# Altium footprint library Smoothie_new_12_02.PcbLib: 39 footprints (part 2 of 3)
Each footprint in its own frame and in the unit in brackets; x right, y up, seen from the top. Pads: shape width x height; smd on the part's side, far side on the other; paste and mask are expansions set on the pad; w line width, h text height; cw(c..) or ccw(c..) is an arc to the next point about the centre after c.
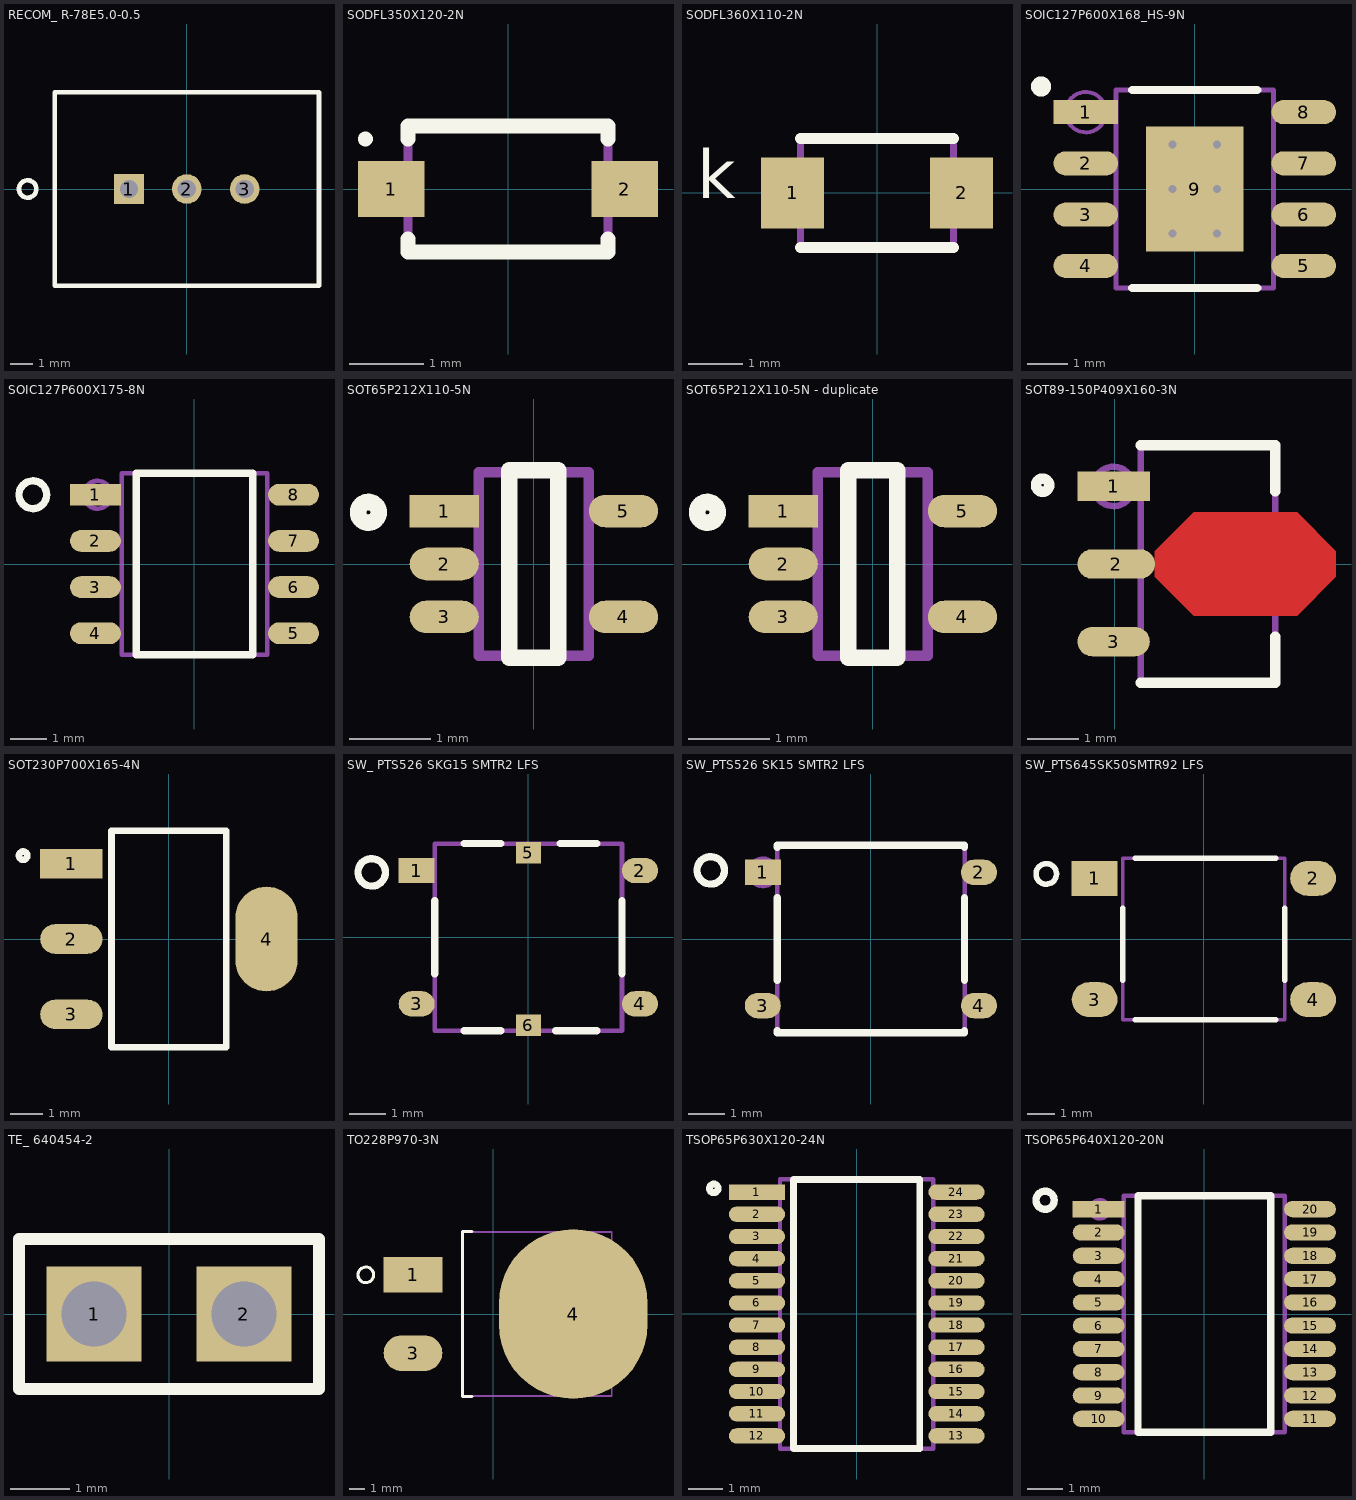
[diagram p1: the footprints below, top view; thin cyan lines are the x and y axes]

## RECOM_ R-78E5.0-0.5 [mm]
height 10.4
pads (3):
  rect 1.3x1.3 hole 0.8: 1(-2.54,0)
  round 1.3 hole 0.8: 2(0,0) 3(2.54,0)
Top Overlay:
  circle w0.203: c-6.985,0 r0.381
  lines w0.203: -5.8,-4.25 -5.8,4.25 5.8,4.25 5.8,-4.25 -5.8,-4.25
Mechanical 1:
  text "'.Designator'" at 0,0 h1.52
Mechanical 15:
  circle w0.127: c-2.54,0 r0.381
  lines w0.127: -5.8,-4.25 5.8,-4.25 5.8,4.25 -5.8,4.25 -5.8,-4.25
3D body: height 10.4, standoff 0, extent -5.8,-4.25 5.8,4.25

## SODFL350X120-2N [mm] "SODFL, 2-Leads, Body 1.60x3.50mm, IPC Medium Density"
height 1.2
pads (2):
  rect 0.9x0.75 smd: 1(-1.575,0) 2(1.575,0)
Top Overlay:
  circle w0.1: c-1.925,0.675 r0.05
  lines w0.203: -1.35,-0.677 -1.35,-0.85 1.35,-0.85 1.35,-0.677 ; -1.35,0.677 -1.35,0.85 1.35,0.85 1.35,0.677
Mechanical 1:
  text "'.Designator'" at 0,0 h1.52
Mechanical 15:
  lines w0.127: -1.35,-0.85 -1.35,0.85 1.35,0.85 1.35,-0.85 -1.35,-0.85
3D body "SODFL350X120-2N.step": height 1.2, standoff 0, extent -1.75,-0.85 1.75,0.85

## SODFL360X110-2N [mm] "SODFL, 2-Leads, Body 1.80x3.60mm, IPC Medium Density"
height 1.1
pads (2):
  rect 1.15x1.3 smd: 1(-1.55,0) 2(1.55,0)
Top Overlay:
  lines w0.203: -1.4,-1 1.4,-1 ; -1.4,1 1.4,1
  text "k" at -3.302,-0.381 h1.52
Mechanical 1:
  text "'.Designator'" at 0,0 h1.52
Mechanical 15:
  lines w0.127: -1.4,-1 1.4,-1 1.4,1 -1.4,1 -1.4,-1
  text "k" at -3.302,-0.381 h1.52
3D body "SODFL360X110-2N.step": height 1.1, standoff 0, extent -1.8,-1 1.8,1

## SOIC127P600X168_HS-9N [mm] "SOIC, 8-Leads, Body 4.89x3.90mm, Pitch 1.27mm, Thermal Pad 3.10x2.41mm, IPC Medium Density"
height 1.68
pads (9):
  rect 1.6x0.6 smd: 1(-2.7,1.905)
  oval 1.6x0.6 smd: 2(-2.7,0.635) 3(-2.7,-0.635) 4(-2.7,-1.905) 5(2.7,-1.905) 6(2.7,-0.635) 7(2.7,0.635) 8(2.7,1.905)
  rect 2.41x3.1 smd: 9(0,0)
via 0.55,-1.1 diameter 0.5 hole 0.2
via -0.55,-1.1 diameter 0.5 hole 0.2
via 0.55,0 diameter 0.5 hole 0.2
via -0.55,0 diameter 0.5 hole 0.2
via 0.55,1.1 diameter 0.5 hole 0.2
via -0.55,1.1 diameter 0.5 hole 0.2
Top Overlay:
  circle w0.25: c-3.81,2.54 r0.125
  lines w0.203: -1.55,-2.45 1.55,-2.45 ; -1.55,2.45 1.55,2.45
Mechanical 15:
  circle w0.1: c-2.7,1.905 r0.5
  lines w0.127: -1.95,-2.45 1.95,-2.45 1.95,2.45 -1.95,2.45 -1.95,-2.45
3D body "SOIC127P600X168_HS-9N.step": height 1.68, standoff 0, extent -3.01,-2.45 3.01,2.45

## SOIC127P600X175-8N [mm] "SOIC, 8-Leads, Body 4.90x3.90mm, Pitch 1.27mm, IPC Medium Density"
height 1.75
pads (8):
  rect 1.4x0.6 smd: 1(-2.725,1.905)
  oval 1.4x0.6 smd: 2(-2.725,0.635) 3(-2.725,-0.635) 4(-2.725,-1.905) 5(2.725,-1.905) 6(2.725,-0.635) 7(2.725,0.635) 8(2.725,1.905)
Top Overlay:
  circle w0.203: c-4.445,1.905 r0.381
  lines w0.203: -1.6,-2.5 -1.6,2.5 1.6,2.5 1.6,-2.5 -1.6,-2.5
Mechanical 1:
  text "'.Designator'" at 0,0 h1.52
Mechanical 15:
  circle w0.127: c-2.667,1.905 r0.381
  lines w0.127: -2,-2.5 -2,2.5 2,2.5 2,-2.5 -2,-2.5
3D body "SOIC127P600X175-8N.step": height 1.75, standoff 0, extent -3,-2.5 3,2.5

## SOT65P212X110-5N [mm] "SOT23, 5-Leads, Body 2.05x2.13mm, Pitch 0.65mm, IPC Medium Density"
height 1.1
pads (5):
  rect 0.85x0.4 smd: 1(-1.1,0.65)
  oval 0.85x0.4 smd: 2(-1.1,0) 3(-1.1,-0.65) 4(1.1,-0.65) 5(1.1,0.65)
Top Overlay:
  circle w0.203: c-2.032,0.635 r0.127
  lines w0.203: -0.3,-1.15 -0.3,1.15 0.3,1.15 0.3,-1.15 -0.3,-1.15
Mechanical 1:
  text "'.Designator'" at 0,0 h1.52
Mechanical 15:
  lines w0.127: -0.675,-1.125 0.675,-1.125 0.675,1.125 -0.675,1.125 -0.675,-1.125
3D body "SOT65P212X110-5N.step": height 1.1, standoff 0, extent -1.125,-1.125 1.125,1.125

## SOT65P212X110-5N - duplicate [mm] "SOT23, 5-Leads, Body 2.05x2.13mm, Pitch 0.65mm, IPC Medium Density"
height 1.1
pads (5):
  rect 0.85x0.4 smd: 1(-1.1,0.65)
  oval 0.85x0.4 smd: 2(-1.1,0) 3(-1.1,-0.65) 4(1.1,-0.65) 5(1.1,0.65)
Top Overlay:
  circle w0.203: c-2.032,0.635 r0.127
  lines w0.203: -0.3,-1.15 0.3,-1.15 0.3,1.15 -0.3,1.15 -0.3,-1.15
Mechanical 1:
  text "'.Designator'" at 0,0 h1.52
Mechanical 15:
  lines w0.127: -0.675,-1.125 -0.675,1.125 0.675,1.125 0.675,-1.125 -0.675,-1.125
3D body "SOT65P212X110-5N.step": height 1.1, standoff 0, extent -1.125,-1.125 1.125,1.125

## SOT89-150P409X160-3N [mm] "SOT89, 3-Leads, Body 4.50x2.45mm, Pitch 1.50mm, Lead Span 4.1mm, IPC Medium Density"
height 1.6
pads (3):
  rect 1.4x0.57 smd: 1(-0.025,1.5)
  oval 1.5x0.57 smd: 2(0.025,0)
  oval 1.4x0.57 smd: 3(-0.025,-1.5)
Top Layer:
  region: 0.775,0.25 1.525,1 3.525,1 4.275,0.25 4.275,-0.25 3.525,-1 1.525,-1 0.775,-0.25
Top Overlay:
  circle w0.203: c-1.397,1.524 r0.127
  lines w0.203: 0.498,-2.3 3.098,-2.3 3.098,-1.402 ; 0.498,2.3 3.098,2.3 3.098,1.402
Mechanical 1:
  text "'.Designator'" at 0,0 h1.52
Mechanical 15:
  circle w0.127: c-0.025,1.5 r0.381
  lines w0.127: 0.498,-2.3 3.098,-2.3 3.098,2.3 0.498,2.3 0.498,-2.3
3D body "SOT89-150P409X160-3N.step": height 1.6, standoff 0, extent -0.425,-2.297 3.875,2.297

## SOT230P700X165-4N [mm] "SOT223, 4-Leads, Body 6.50x7.00mm (avg), Pitch 2.30mm, IPC Medium Density"
height 1.65
pads (4):
  rect 1.9x0.9 smd: 1(-2.975,2.3)
  oval 1.9x0.9 smd: 2(-2.975,0) 3(-2.975,-2.3)
  oval 1.9x3.2 smd: 4(2.975,0)
Top Overlay:
  circle w0.203: c-4.445,2.54 r0.127
  lines w0.203: -1.75,-3.3 1.75,-3.3 1.75,3.3 -1.75,3.3 -1.75,-3.3
Mechanical 15:
  lines w0.127: -1.775,-3.275 1.775,-3.275 1.775,3.275 -1.775,3.275 -1.775,-3.275
3D body "SOT230P700X165-4N.step": height 1.65, standoff 0, extent -3.5,-3.275 3.5,3.275

## SW_ PTS526 SKG15 SMTR2 LFS [mm]
height 1.25
pads (6):
  rect 1x0.7 smd: 1(-3.1,1.85)
  oval 1x0.7 smd: 2(3.1,1.85) 3(-3.1,-1.85) 4(3.1,-1.85)
  rect 0.7x0.6 smd: 5(0,2.35) 6(0,-2.45)
Top Overlay:
  circle w0.203: c-4.35,1.8 r0.381
  lines w0.203: -2.6,-1.016 -2.6,1.016 ; -1.778,-2.6 -0.762,-2.6 ; -1.778,2.6 -0.762,2.6 ; 0.762,-2.6 1.905,-2.6 ; 0.889,2.6 1.905,2.6 ; 2.6,-1.016 2.6,1.016
Mechanical 1:
  text "'.Designator'" at 0,0 h1.52
Mechanical 15:
  circle w0.127: c-3.1,1.85 r0.254
  lines w0.127: -2.6,-2.6 2.6,-2.6 2.6,2.6 -2.6,2.6 -2.6,-2.6
3D body: height 1.25, standoff 0, extent -2.6,-2.6 2.6,2.6

## SW_PTS526 SK15 SMTR2 LFS [mm]
height 1.15
pads (4):
  rect 1x0.7 smd: 1(-3,1.85)
  oval 1x0.7 smd: 2(3,1.85) 3(-3,-1.85) 4(3,-1.85)
Top Overlay:
  circle w0.203: c-4.445,1.905 r0.381
  lines w0.203: -2.6,-2.54 -2.6,-2.6 2.6,-2.6 2.6,-2.54 ; -2.6,-1.143 -2.6,1.143 ; -2.6,2.54 -2.6,2.6 2.6,2.6 2.6,2.54 ; 2.6,-1.143 2.6,1.143
Mechanical 1:
  text "'.Designator'" at 0,0 h1.52
Mechanical 15:
  circle w0.127: c-3,1.85 r0.381
  lines w0.127: -2.6,-2.6 -2.6,2.6 2.6,2.6 2.6,-2.6 -2.6,-2.6
3D body: height 1.15, standoff 0, extent -2.6,-2.6 2.6,2.6

## SW_PTS645SK50SMTR92 LFS [mm]
height 4.4
pads (4):
  rect 1.7x1.3 smd: 1(-4.05,2.25)
  oval 1.7x1.3 smd: 2(4.05,2.25) 3(-4.05,-2.25) 4(4.05,-2.25)
Top Overlay:
  circle w0.203: c-5.842,2.413 r0.381
  lines w0.203: -3,-1.524 -3,1.143 ; -2.54,-3 2.667,-3 ; -2.54,3 2.667,3 ; 3,-1.524 3,1.143
Mechanical 1:
  text "'.Designator'" at 0,0 h1.52
Mechanical 15:
  circle w0.127: c-4.05,2.25 r0.381
  lines w0.127: -3,-3 3,-3 3,3 -3,3 -3,-3
3D body: height 44, standoff 0, extent -3,-3 3,3

## TE_ 640454-2 [mm]
height 7.75
pads (2):
  rect 1.61x1.61 hole 1.1: 1(-1.27,0) 2(1.27,0)
Top Overlay:
  lines w0.203: -2.54,-1.27 -2.54,1.27 2.54,1.27 2.54,-1.27 -2.54,-1.27
Mechanical 1:
  text "'.Designator'" at 0,0 h1.52
Mechanical 15:
  lines w0.127: -2.54,-1.27 2.54,-1.27 2.54,1.27 -2.54,1.27 -2.54,-1.27
3D body: height 7.75, standoff 0, extent -2.54,-1.27 2.54,1.27

## TO228P970-3N [mm]
height 4.83
pads (3):
  rect 3.81x2.32 smd: 1(-5.195,2.54)
  oval 3.81x2.32 smd: 3(-5.195,-2.54)
  oval 9.65x11 smd: 4(5.195,0)
Top Overlay:
  circle w0.203: c-8.255,2.54 r0.508
  lines w0.203: -1.375,-5.35 -1.975,-5.35 -1.975,5.35 -1.375,5.35
Mechanical 1:
  text "'.Designator'" at 0,0 h1.52
Mechanical 15:
  circle w0.127: c-5.055,2.591 r0.635
  lines w0.127: -1.975,-5.325 7.695,-5.325 7.695,5.325 -1.975,5.325 -1.975,-5.325
3D body "TO228P970-3N.step": height 4.83, standoff 0, extent -5.675,-5.325 9.57,5.325

## TSOP65P630X120-24N [mm] "TSOP, 24-Leads, Body 7.80x4.40mm, Pitch 0.65mm, IPC Medium Density"
height 1.2
pads (24):
  rect 1.65x0.45 smd: 1(-2.925,3.575)
  oval 1.65x0.45 smd: 2(-2.925,2.925) 3(-2.925,2.275) 4(-2.925,1.625) 5(-2.925,0.975) 6(-2.925,0.325) 7(-2.925,-0.325) 8(-2.925,-0.975) 9(-2.925,-1.625) 10(-2.925,-2.275) 11(-2.925,-2.925) 12(-2.925,-3.575) 13(2.925,-3.575) 14(2.925,-2.925) 15(2.925,-2.275) 16(2.925,-1.625) 17(2.925,-0.975) 18(2.925,-0.325) 19(2.925,0.325) 20(2.925,0.975) 21(2.925,1.625) 22(2.925,2.275) 23(2.925,2.925) 24(2.925,3.575)
Top Overlay:
  circle w0.203: c-4.191,3.683 r0.127
  lines w0.203: -1.85,-3.95 -1.85,3.95 1.85,3.95 1.85,-3.95 -1.85,-3.95
Mechanical 1:
  text "'.Designator'" at 0,0 h1.52
Mechanical 15:
  circle w0.127: c-2.54,3.556 r0.127
  lines w0.127: -2.25,-3.95 -2.25,3.95 2.25,3.95 2.25,-3.95 -2.25,-3.95
3D body "TSOP65P630X120-24N.step": height 1.2, standoff 0, extent -3.15,-3.95 3.15,3.95

## TSOP65P640X120-20N [mm] "TSOP, 20-Leads, Body 6.50x4.40mm, Pitch 0.65mm, IPC Medium Density"
height 1.2
pads (20):
  rect 1.45x0.45 smd mask+0.076: 1(-2.95,2.925)
  oval 1.45x0.45 smd mask+0.076: 2(-2.95,2.275) 3(-2.95,1.625) 4(-2.95,0.975) 5(-2.95,0.325) 6(-2.95,-0.325) 7(-2.95,-0.975) 8(-2.95,-1.625) 9(-2.95,-2.275) 10(-2.95,-2.925) 11(2.95,-2.925) 12(2.95,-2.275) 13(2.95,-1.625) 14(2.95,-0.975) 15(2.95,-0.325) 16(2.95,0.325) 17(2.95,0.975) 18(2.95,1.625) 19(2.95,2.275) 20(2.95,2.925)
Top Overlay:
  circle w0.203: c-4.445,3.175 r0.254
  lines w0.203: -1.85,-3.3 -1.85,3.3 1.85,3.3 1.85,-3.3 -1.85,-3.3
Mechanical 1:
  text "'.Designator'" at 0,0 h1.52
Mechanical 15:
  circle w0.127: c-2.921,2.921 r0.254
  lines w0.127: -2.25,-3.3 -2.25,3.3 2.25,3.3 2.25,-3.3 -2.25,-3.3
3D body "TSOP65P640X120-20N.step": height 1.2, standoff 0, extent -3.2,-3.3 3.2,3.3